# Altium footprint library memo.PcbLib: 57 footprints (part 3 of 4)
Each footprint in its own frame and in the unit in brackets; x right, y up, seen from the top. Pads: shape width x height; smd on the part's side, far side on the other; paste and mask are expansions set on the pad; w line width, h text height; cw(c..) or ccw(c..) is an arc to the next point about the centre after c.
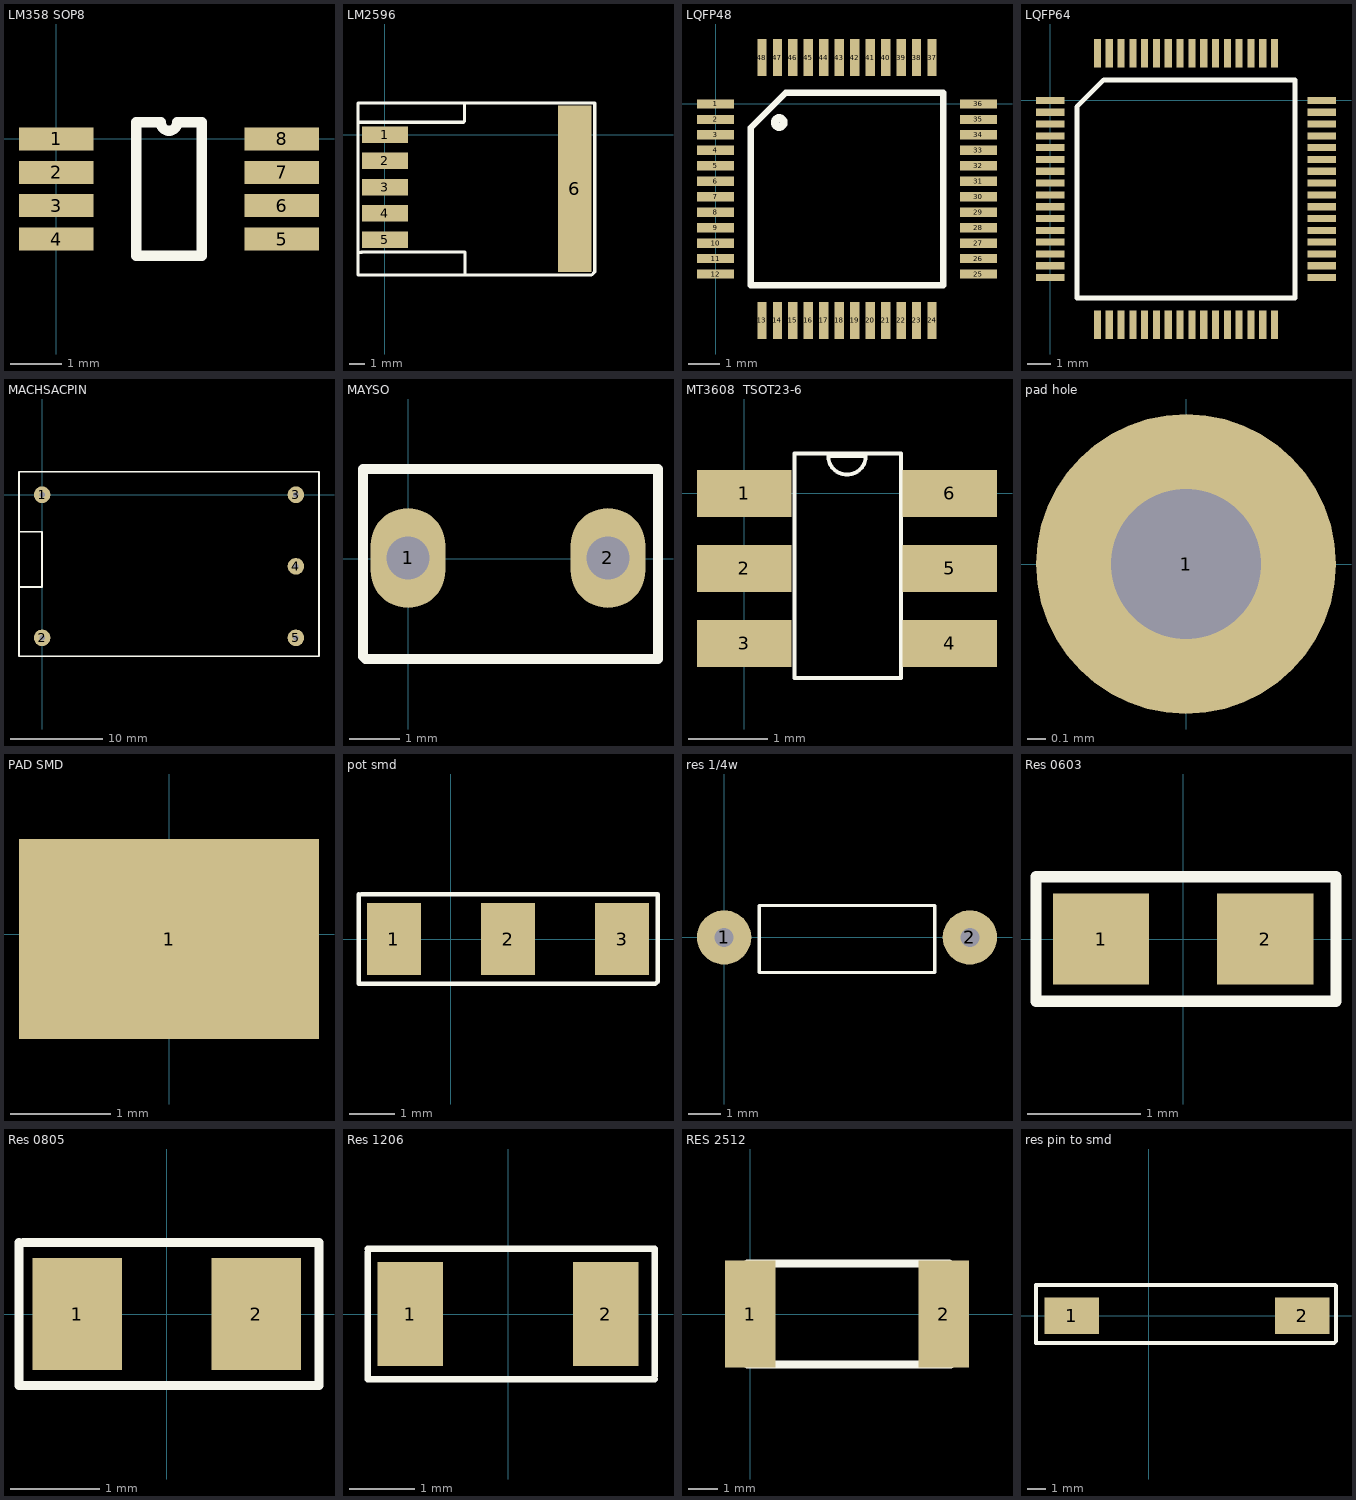
[diagram p2: the footprints below, top view; thin cyan lines are the x and y axes]

## LM358 SOP8 [mm]
pads (8):
  rect 1.45x0.45 smd: 1(0,0) 2(0,-0.65) 3(0,-1.3) 4(0,-1.95) 5(4.4,-1.95) 6(4.4,-1.3) 7(4.4,-0.65) 8(4.4,0)
Top Overlay:
  lines w0.2: 1.56,-2.275 1.56,0.325 2.037,0.325 ccw(c2.2,0.325) 2.362,0.325 2.84,0.325 2.84,-2.275 1.56,-2.275

## LM2596 [mm]
pads (6):
  rect 3x1.07 smd: 1(0,0) 2(0,-1.7) 3(0,-3.4) 4(0,-5.1) 5(0,-6.8)
  rect 2.16x10.8 smd: 6(12.3,-3.5)
Top Overlay:
  lines w0.2: -1.75,-7.65 -1.5,-7.65 ; -1.75,0.8 -1.05,0.8 ; -1.55,-7.6 -1.15,-7.6 5.2,-7.6 5.2,-9 ; -1.1,0.8 5.1,0.8 5.15,0.85 5.15,2 ; -1.75,-9.1 13.4,-9.1 13.6,-8.9 13.6,2.05 -1.75,2.05 -1.75,-9.1
3D body "User Library-TO263-5.STEP": height 5.18, standoff 0.38, extent -1.335,-8.5 14.335,1.5

## LQFP48 [mm]
pads (48):
  rect 1.2x0.3 smd: 1(0,0) 2(0,-0.5) 3(0,-1) 4(0,-1.5) 5(0,-2) 6(0,-2.5) 7(0,-3) 8(0,-3.5) 9(0,-4) 10(0,-4.5) 11(0,-5) 12(0,-5.5) 25(8.5,-5.5) 26(8.5,-5) 27(8.5,-4.5) 28(8.5,-4) 29(8.5,-3.5) 30(8.5,-3) 31(8.5,-2.5) 32(8.5,-2) 33(8.5,-1.5) 34(8.5,-1) 35(8.5,-0.5) 36(8.5,0)
  rect 0.3x1.2 smd: 13(1.5,-7) 14(2,-7) 15(2.5,-7) 16(3,-7) 17(3.5,-7) 18(4,-7) 19(4.5,-7) 20(5,-7) 21(5.5,-7) 22(6,-7) 23(6.5,-7) 24(7,-7) 37(7,1.5) 38(6.5,1.5) 39(6,1.5) 40(5.5,1.5) 41(5,1.5) 42(4.5,1.5) 43(4,1.5) 44(3.5,1.5) 45(3,1.5) 46(2.5,1.5) 47(2,1.5) 48(1.5,1.5)
Top Overlay:
  circle w0.254: c2.059,-0.6 r0.141
  lines w0.2: 1.135,-5.865 7.365,-5.865 7.365,0.365 2.27,0.365 1.135,-0.77 1.135,-5.865

## LQFP64 [mm]
pads (64):
  rect 1.2x0.3 smd: 1(0,0) 2(0,-0.5) 3(0,-1) 4(0,-1.5) 5(0,-2) 6(0,-2.5) 7(0,-3) 8(0,-3.5) 9(0,-4) 10(0,-4.5) 11(0,-5) 12(0,-5.5) 13(0,-6) 14(0,-6.5) 15(0,-7) 16(0,-7.5) 33(11.5,-7.5) 34(11.5,-7) 35(11.5,-6.5) 36(11.5,-6) 37(11.5,-5.5) 38(11.5,-5) 39(11.5,-4.5) 40(11.5,-4) 41(11.5,-3.5) 42(11.5,-3) 43(11.5,-2.5) 44(11.5,-2) 45(11.5,-1.5) 46(11.5,-1) 47(11.5,-0.5) 48(11.5,0)
  rect 0.3x1.2 smd: 17(2,-9.5) 18(2.5,-9.5) 19(3,-9.5) 20(3.5,-9.5) 21(4,-9.5) 22(4.5,-9.5) 23(5,-9.5) 24(5.5,-9.5) 25(6,-9.5) 26(6.5,-9.5) 27(7,-9.5) 28(7.5,-9.5) 29(8,-9.5) 30(8.5,-9.5) 31(9,-9.5) 32(9.5,-9.5) 49(9.5,2) 50(9,2) 51(8.5,2) 52(8,2) 53(7.5,2) 54(7,2) 55(6.5,2) 56(6,2) 57(5.5,2) 58(5,2) 59(4.5,2) 60(4,2) 61(3.5,2) 62(3,2) 63(2.5,2) 64(2,2)
Top Overlay:
  lines w0.2: 1.135,-8.365 1.135,-0.27 2.27,0.865 10.365,0.865 10.365,-8.365 1.135,-8.365
3D body "User Library-LQFP64-1.STEP": height 1.56, standoff 0, extent -0.25,-9.7 11.75,2.3

## MACHSACPIN [mm]
pads (5):
  round 1.8 hole 0.6: 1(0,0) 2(0,-15.5) 3(27.5,0) 4(27.5,-7.75) 5(27.5,-15.5)
Top Overlay:
  lines w0.2: -2.5,-10 0,-10 0,-4 -2.5,-4 ; -2.5,-17.5 -2.5,2.5 30,2.5 30,-17.5 -2.5,-17.5
3D body "TP4056 charge module with protection.stp": height 4.2, standoff -0.4, extent -0.787,-16.118 28.487,0.9

## MAYSO [mm]
pads (2):
  oval 1.5x2 hole 0.864: 1(0,0.02) 2(4,0.02)
Top Overlay:
  lines w0.2: -0.9,1.75 -0.9,-1.95 -0.85,-2 5,-2 5,1.8 -0.9,1.8

## MT3608  TSOT23-6 [mm]
pads (6):
  rect 1.2x0.6 smd: 1(0,0) 2(0,-0.95) 3(0,-1.9) 4(2.6,-1.9) 5(2.6,-0.95) 6(2.6,0)
Top Overlay:
  lines w0.05: 1.285,0.475 1.062,0.475 ccw(c1.3,0.475) 1.538,0.475 1.315,0.475
  lines w0.051: 0.635,-2.337 0.635,-2.108 0.635,0.508 1.981,0.508 1.981,-2.337 0.635,-2.337

## pad hole [mm]
pads (1):
  round 1.6 hole 0.8: 1(0,0)

## PAD SMD [mm]
pads (1):
  rect 3x2 smd: 1(0,-0.05)

## pot smd [mm]
pads (3):
  rect 1.2x1.6 smd: 1(-1.27,0) 2(1.27,0) 3(3.81,0)
Top Overlay:
  lines w0.1: -2.05,1 -2.05,-1 4.55,-1 4.6,-0.95 4.6,1 -2,1

## res 1/4w [mm]
pads (2):
  round 1.7 hole 0.6: 1(0,0) 2(7.7,0)
Top Overlay:
  lines w0.1: 1.1,-1.1 6.6,-1.1 6.6,1 1.1,1 1.1,-1.1
3D body "1k 0.4.STEP": height 2.93, standoff -2.54, extent -1.55,-1.106 9.22,1.206

## Res 0603 [mm]
pads (2):
  rect 0.85x0.8 smd: 1(-0.725,0) 2(0.725,0)
Top Overlay:
  lines w0.1: -1.3,-0.55 1.35,-0.55 1.35,0.55 -1.3,0.55 -1.3,-0.55
3D body "RES0603.stp": height 0.45, standoff 0, extent -0.8,-0.4 0.8,0.4

## Res 0805 [mm]
pads (2):
  rect 1x1.25 smd: 1(-1,0) 2(1,0)
Top Overlay:
  lines w0.1: -1.65,0.8 -1.65,-0.8 1.7,-0.8 1.7,0.8 -1.6,0.8
3D body "RES0805.stp": height 0.5, standoff 0, extent -1,-0.65 1,0.6

## Res 1206 [mm]
pads (2):
  rect 1x1.6 smd: 1(-1.5,0) 2(1.5,0)
Top Overlay:
  lines w0.1: -2.15,0.95 -2.15,-0.9 -2.15,-1 2.25,-1 ; -2.15,1 2.25,1 2.25,-0.95
3D body "RES1206.stp": height 0.55, standoff 0, extent -1.55,-0.8 1.55,0.752

## RES 2512 [mm]
pads (2):
  rect 1.7x3.6 smd: 1(0,0) 2(6.5,0)
Top Overlay:
  lines w0.254: -0.1,1.6 -0.1,-1.7 6.75,-1.7 6.75,1.65 6.7,1.7 -0.1,1.7
3D body "User Library-R2512-1.STEP": height 0.55, standoff 0, extent -0.05,-1.65 6.65,1.55

## res pin to smd [mm]
pads (2):
  rect 3x2 smd: 1(-4.25,0) 2(8.45,0)
Top Overlay:
  lines w0.2: 6.4,-1.5 10.2,-1.5 10.3,-1.4 10.3,1.65 10.25,1.7 6.4,1.7 ; 6.45,-1.5 -6.22,-1.5 -6.22,1.03 -6.22,1.7 -3.625,1.7 3.625,1.7 6.45,1.7